# EAGLE library part MC9S08AW60 (library MOTOROLA)
MC9S08AW16/32/64 CPUE commercial LQFP, lead free CFUE commercial QFP, lead free MPUE military LQFP, lead free MFUE military QFP, lead free
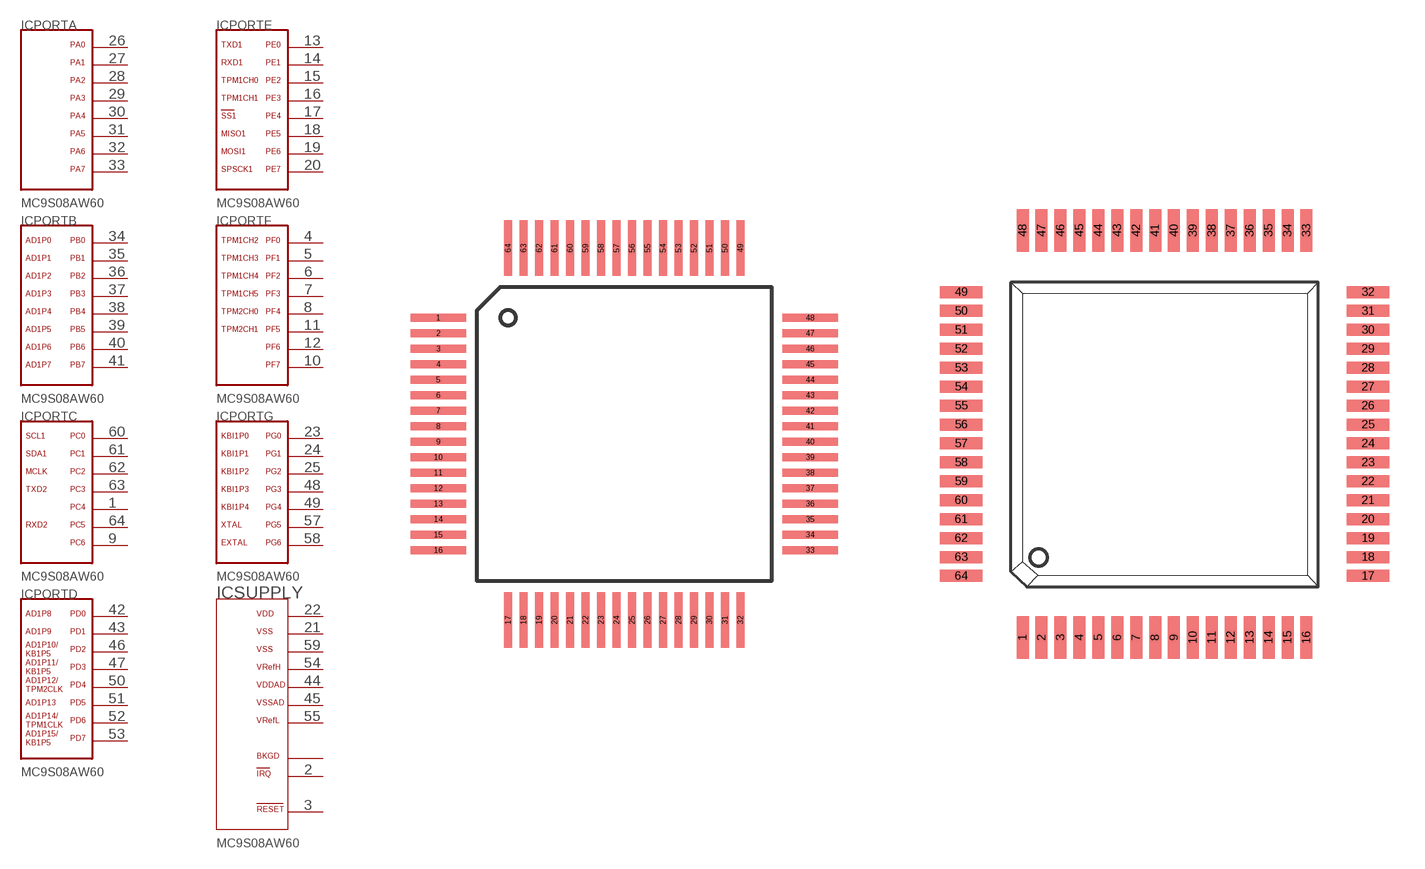
[diagram p60: symbol with the pads of LQFP64; footprints LQFP64, QFP64]

Designator prefix IC; gates PORTA=AW60_PORTA PORTB=AW60_PORTB PORTC=AW60_PORTC PORTD=AW60_PORTD PORTE=AW60_PORTE PORTF=AW60_PORTF PORTG=AW60_PORTG SUPPLY=AW60_SUPPLY

## MC9S08AW60CPUE  [LQFP64]
1  PORTC:PC4
2  SUPPLY:IRQ/
3  SUPPLY:RST/
4  PORTF:PF0
5  PORTF:PF1
6  PORTF:PF2
7  PORTF:PF3
8  PORTF:PF4
9  PORTC:PC6
10  PORTF:PF7
11  PORTF:PF5
12  PORTF:PF6
13  PORTE:PE0
14  PORTE:PE1
15  PORTE:PE2
16  PORTE:PE3
17  PORTE:PE4
18  PORTE:PE5
19  PORTE:PE6
20  PORTE:PE7
21  SUPPLY:VSS
22  SUPPLY:VDD
23  PORTG:PG0
24  PORTG:PG1
25  PORTG:PG2
26  PORTA:PA0
27  PORTA:PA1
28  PORTA:PA2
29  PORTA:PA3
30  PORTA:PA4
31  PORTA:PA5
32  PORTA:PA6
33  PORTA:PA7
34  PORTB:PB0
35  PORTB:PB1
36  PORTB:PB2
37  PORTB:PB3
38  PORTB:PB4
39  PORTB:PB5
40  PORTB:PB6
41  PORTB:PB7
42  PORTD:PD0
43  PORTD:PD1
44  SUPPLY:VDDAD
45  SUPPLY:VSSAD
46  PORTD:PD2
47  PORTD:PD3
48  PORTG:PG3
49  PORTG:PG4
50  PORTD:PD4
51  PORTD:PD5
52  PORTD:PD6
53  PORTD:PD7
54  SUPPLY:VREFH
55  SUPPLY:VREFL
56  SUPPLY:BKGD
57  PORTG:PG5
58  PORTG:PG6
59  SUPPLY:VSS2
60  PORTC:PC0
61  PORTC:PC1
62  PORTC:PC2
63  PORTC:PC3
64  PORTC:PC5

## MC9S08AW60CFUE  [QFP64]
Pads as for LQFP64

## Footprint LQFP64 (pad centres in mm)
smd 1.778 x 0.254: 1 -6,3.75; 2 -6,3.25; 3 -6,2.75; 4 -6,2.25; 5 -6,1.75; 6 -6,1.25; 7 -6,0.75; 8 -6,0.25; 9 -6,-0.25; 10 -6,-0.75; 11 -6,-1.25; 12 -6,-1.75; 13 -6,-2.25; 14 -6,-2.75; 15 -6,-3.25; 16 -6,-3.75; 33 6,-3.75; 34 6,-3.25; 35 6,-2.75; 36 6,-2.25; 37 6,-1.75; 38 6,-1.25; 39 6,-0.75; 40 6,-0.25; 41 6,0.25; 42 6,0.75; 43 6,1.25; 44 6,1.75; 45 6,2.25; 46 6,2.75; 47 6,3.25; 48 6,3.75
smd 0.254 x 1.778: 17 -3.75,-6; 18 -3.25,-6; 19 -2.75,-6; 20 -2.25,-6; 21 -1.75,-6; 22 -1.25,-6; 23 -0.75,-6; 24 -0.25,-6; 25 0.25,-6; 26 0.75,-6; 27 1.25,-6; 28 1.75,-6; 29 2.25,-6; 30 2.75,-6; 31 3.25,-6; 32 3.75,-6; 49 3.75,6; 50 3.25,6; 51 2.75,6; 52 2.25,6; 53 1.75,6; 54 1.25,6; 55 0.75,6; 56 0.25,6; 57 -0.25,6; 58 -0.75,6; 59 -1.25,6; 60 -1.75,6; 61 -2.25,6; 62 -2.75,6; 63 -3.25,6; 64 -3.75,6

## Footprint QFP64 (pad centres in mm)
smd 0.508 x 1.778: 1 -6,-8.6; 2 -5.2,-8.6; 3 -4.4,-8.6; 4 -3.6,-8.6; 5 -2.8,-8.6; 6 -2,-8.6; 7 -1.2,-8.6; 8 -0.4,-8.6; 9 0.4,-8.6; 10 1.2,-8.6; 11 2,-8.6; 12 2.8,-8.6; 13 3.6,-8.6; 14 4.4,-8.6; 15 5.2,-8.6; 16 6,-8.6; 33 6,8.6; 34 5.2,8.6; 35 4.4,8.6; 36 3.6,8.6; 37 2.8,8.6; 38 2,8.6; 39 1.2,8.6; 40 0.4,8.6; 41 -0.4,8.6; 42 -1.2,8.6; 43 -2,8.6; 44 -2.8,8.6; 45 -3.6,8.6; 46 -4.4,8.6; 47 -5.2,8.6; 48 -6,8.6
smd 1.778 x 0.508: 17 8.6,-6; 18 8.6,-5.2; 19 8.6,-4.4; 20 8.6,-3.6; 21 8.6,-2.8; 22 8.6,-2; 23 8.6,-1.2; 24 8.6,-0.4; 25 8.6,0.4; 26 8.6,1.2; 27 8.6,2; 28 8.6,2.8; 29 8.6,3.6; 30 8.6,4.4; 31 8.6,5.2; 32 8.6,6; 49 -8.6,6; 50 -8.6,5.2; 51 -8.6,4.4; 52 -8.6,3.6; 53 -8.6,2.8; 54 -8.6,2; 55 -8.6,1.2; 56 -8.6,0.4; 57 -8.6,-0.4; 58 -8.6,-1.2; 59 -8.6,-2; 60 -8.6,-2.8; 61 -8.6,-3.6; 62 -8.6,-4.4; 63 -8.6,-5.2; 64 -8.6,-6